# Altium schematic symbol library AL8860QMP-13.SchLib: 1 symbol
Pins are listed as number, name and electrical type; pins without a type are passive.

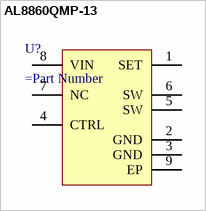
[diagram p0: symbol AL8860QMP-13]

## AL8860QMP-13
designator U?
=Description
pins: 1 SET, 2 GND (power), 3 GND (power), 4 CTRL, 5 SW, 6 SW, 7 NC, 8 VIN (power), 9 EP